# EAGLE library part TPS5430 (library EYR_Reguladores)
TPS543x 3-A, Wide Input Range, Step-Down Converter
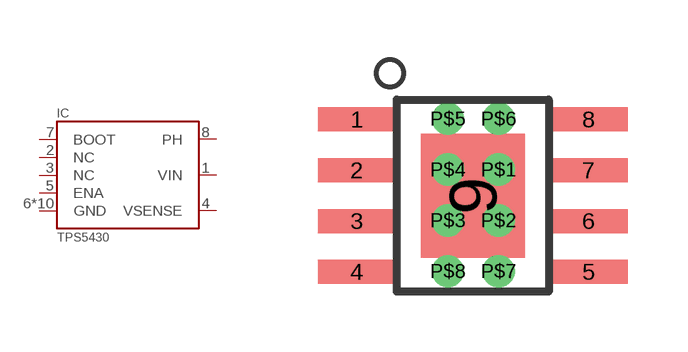
[diagram p0: symbol with the pads of SOIC-08; footprint SOIC-08]

Designator prefix IC

## TPS5430  [SOIC-08]
1  VIN
2  NC
3  NC
4  VSENSE
5  ENA
6  GND
7  BOOT
8  PH
9  GND
P$1  GND
P$2  GND
P$3  GND
P$4  GND
P$5  GND
P$6  GND
P$7  GND
P$8  GND

## Footprint SOIC-08 (pad centres in mm)
SO PowerPAD 8-Pin SOIC with Thermal Pad
smd 1.95 x 0.6: 1 -2.9,1.905; 2 -2.9,0.635; 3 -2.9,-0.635; 4 -2.9,-1.905; 5 2.9,-1.905; 6 2.9,-0.635; 7 2.9,0.635; 8 2.9,1.905
smd 2.6 x 3.1: 9 0,0
drill 0.3 pad 0.7: P$1 0.65,0.65; P$2 0.65,-0.62; P$3 -0.62,-0.62; P$4 -0.62,0.65; P$5 -0.62,1.92; P$6 0.65,1.92; P$7 0.65,-1.89; P$8 -0.62,-1.89